# Altium integrated library 1541 Interface for ZX-81.IntLib: 24 symbols
Pins are listed as number, name and electrical type; pins without a type are passive.

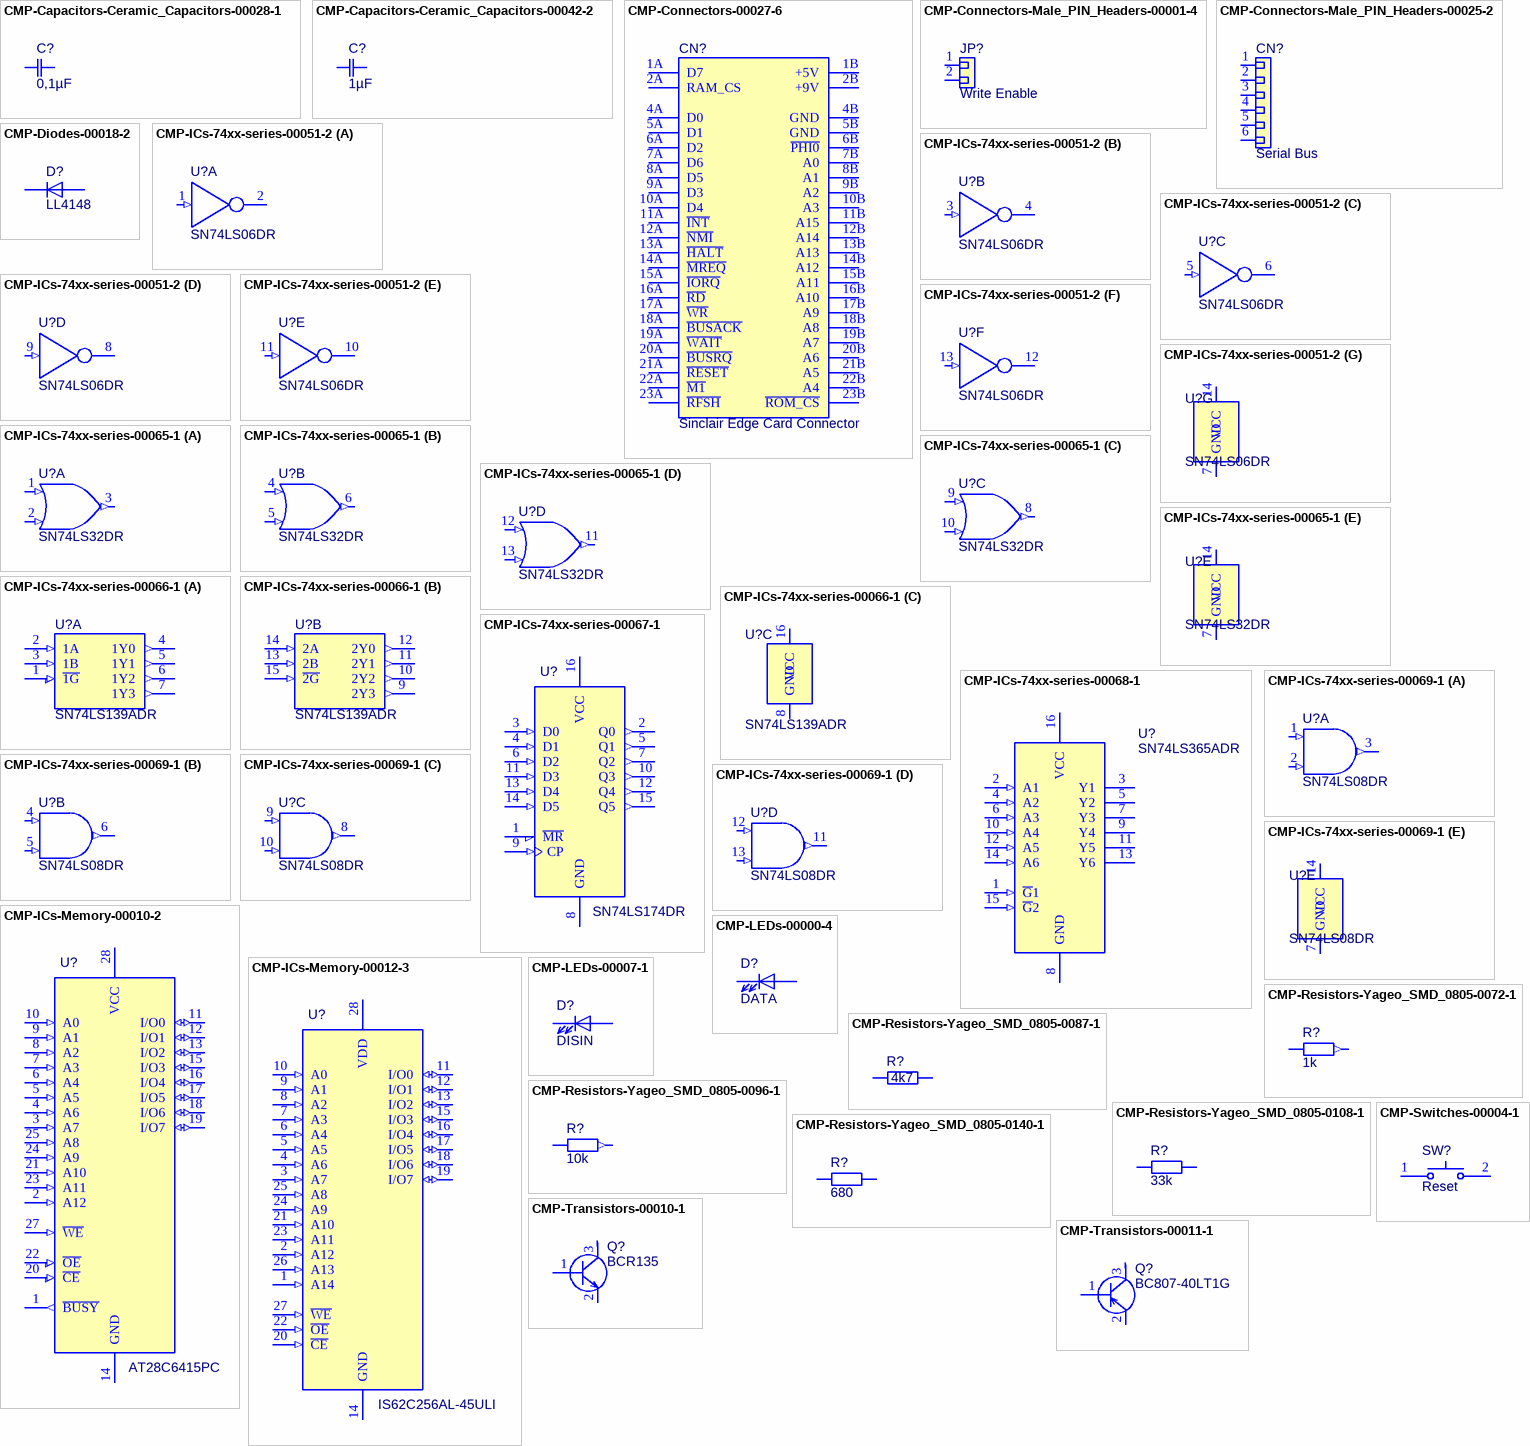
[diagram p0: symbols CMP-Capacitors-Ceramic_Capacitors-00028-1 to CMP-Transistors-00011-1]

## CMP-Capacitors-Ceramic_Capacitors-00028-1
designator C?, comment 0,1µF
Capacitor; Ceramic; Cap; .100uF; Tol 20%; SMT; Vol-Rtg 50V; X7R; Tape and Reel; Manufacturer: KEMET; Manufacturer Part Number: C0805C104M5RACTU; Capacitance: 100nF; Depth: 1.25mm; Packaging: Tape and Reel; Min Operating Temperature: -55°C; Max Operating Temperature: 125°C; Dielectric: X7R; Radiation Hardening: No; Mount: Surface Mount; Case/Package: 0805; Dielectric Material: Ceramic; Height: 0.9mm; Voltage Rating (DC): 50V; Length: 2mm; Tolerance: 20%; Component Type: Ceramic Capacitors
footprint CAP SMD 0.1µF 50V 0805 Kemet C0805C104M5RACTU (Chip Capacitor, 2-Leads, Body 2,00x1,25mm, IPC Medium Density)
pins: 1, 2

## CMP-Capacitors-Ceramic_Capacitors-00042-2
designator C?, comment 1µF
KEMET - C0805C105K4RACTU - SMD Multilayer Ceramic Capacitor, 1 µF, 16 V, 0805 [2012 Metric], ± 10%, X7R, C Series KEMET; Voltage: 16V; Capacitance: 1uF; Dissipation Factor: 5%; Number of Pins: 2; Dielectric: X7R; Width: 0.049inch; Voltage Rating (DC): 16V; Depth: 1.25mm; Dielectric Material: Ceramic; Mount: Surface Mount,PCB; Radiation Hardening: No; Max Operating Temperature: 125°C; Thickness: 0.039inch; Packaging: Tape and Reel; Contact Plating: Tin,Matte; Lead Pitch: 0.75mm; Height: 0.9mm; Termination: SMD/SMT; Case Code (Imperial): 0805; REACH SVHC: No SVHC; Case/Package: 0805; Case Code (Metric): 2012; Voltage Rating: 16V; Length: 2mm; Package Quantity: 1; Tolerance: 10%; Min Operating Temperature: -55°C; Manufacturer: KEMET; Manufacturer Part Number: C0805C105K4RACTU; Component Type: Ceramic Capacitors
footprint CAP 1µF 16V 0805 Kemet C0805C105K4RACTU (Chip Capacitor, 2-Leads, Body 2,00x1,25mm, IPC Medium Density)
pins: 1, 2

## CMP-Connectors-00027-6
designator CN?, comment Sinclair Edge Card Connector
Component Type: Connectors
footprint Sinclair Card Connector (C64 Expansion Port EDGE Connector Straight)
pins: 1A D7, 1B +5V (power), 2A RAM_CS, 2B +9V (power), 4A D0, 4B GND (power), 5A D1, 5B GND (power), 6A D2, 6B ~{PHI0}, 7A D6, 7B A0, 8A D5, 8B A1, 9A D3, 9B A2, 10A D4, 10B A3, 11A ~{INT}, 11B A15, 12A ~{NMI}, 12B A14, 13A ~{HALT}, 13B A13, 14A ~{MREQ}, 14B A12, 15A ~{IORQ}, 15B A11, 16A ~{RD}, 16B A10, 17A ~{WR}, 17B A9, 18A ~{BUSACK}, 18B A8, 19A ~{WAIT}, 19B A7, 20A ~{BUSRQ}, 20B A6, 21A ~{RESET}, 21B A5, 22A ~{M1}, 22B A4, 23A ~{RFSH}, 23B ~{ROM_CS}

## CMP-Connectors-Male_PIN_Headers-00001-4
designator JP?, comment Write Enable
CONN HEADER .100" SNGL STR 2POS; Manufacturer: Sullins; Manufacturer Part Number: PRPC002SFAN-RC; Pitch: 0.1inch; Connector Type: Male Pin; Number of Positions: 2; Package Quantity: 1; Packaging: Bulk; Mount: Through Hole; Contact Mating Length: 0.318inch; Termination: Solder; Contact Plating: Gold; Color: Black; Number of Rows: 1; Component Type: Male PIN Headers
footprint Pin Header 01x02 2.54mm Horizontal Male
pins: 1, 2

## CMP-Connectors-Male_PIN_Headers-00025-2
designator CN?, comment Serial Bus
CONN HEADER R/A 6POS 2.54MM; Manufacturer: Sullins; Manufacturer Part Number: PRPC006SBAN-M71RC; Pitch: 0.1inch; Connector Type: Male Pin; Number of Positions: 6; Color: Black; Termination: Solder; Contact Mating Length: 0.23inch; Contact Plating: Gold; Number of Rows: 1; Packaging: Bulk; Package Quantity: 1; Mount: Through Hole; Component Type: Male PIN Headers
footprint Pin Header 01x06 Right Angle RM2.54mm L5.08mm
pins: 1, 2, 3, 4, 5, 6

## CMP-Diodes-00018-2
designator D?, comment LL4148
ON SEMICONDUCTOR - LL4148 - Small Signal Diode, Single, 100 V, 200 mA, 1 V, 4 ns, 2 A; Manufacturer: ON Semiconductor / Fairchild; Power Dissipation: 500mW; Max Forward Surge Current (Ifsm): 2A; Forward Voltage: 1V; Forward Current: 200mA; Voltage: 100V; Max Reverse Current: 25nA; Recovery Time: 4ns; Element Configuration: Single; Min Operating Temperature: -65°C; Max Operating Temperature: 175°C; Width: 1.5mm; Radiation Hardening: No; REACH SVHC: No SVHC; Length: 3.6mm; Max Reverse Voltage (DC): 100V; Reverse Voltage: 100V; Mount: Surface Mount; Height: 1.5mm; Contact Plating: Tin,Matte; Packaging: Tape and Reel; Lead Free: Lead Free; Max Surge Current: 2A; Average Rectified Current: 200mA; Weight: 0.01lb; Number of Pins: 2; Peak Non-Repetitive Surge Current: 2A; Max Repetitive Reverse Voltage (Vrrm): 100V; Reverse Recovery Time: 4ns; Package Quantity: 2500; Manufacturer Part Number: LL4148; Component Type: Diodes
footprint MiniMELF Diode (MELF Diode, 2-Leads, Body 3,50x1,50mm, IPC Medium Density)
pins: 1, 2

## CMP-ICs-74xx-series-00051-2
designator U?, comment SN74LS06DR
IC INVERTER OPEN COL 6CH 14SOIC; Manufacturer: Texas Instruments; Propagation Delay: 20ns; High Level Output Current: -250uA; Logic Function: Buffer,Inverter; Polarity: Inverting; Max Supply Voltage: 5.25V; Number of Inputs: 6; Operating Supply Voltage: 5V; Min Supply Voltage: 4.75V; Low Level Output Current: 40mA; Lead Free: Lead Free; Radiation Hardening: No; Package Quantity: 1; Max Operating Temperature: 70°C; REACH SVHC: No SVHC; Turn-On Delay Time: 20ns; Mount: Surface Mount; Number of Pins: 14; Number of Elements: 6; Packaging: Tape and Reel; Number of Outputs: 6; Number of Bits: 6; Number of Input Lines: 6; Min Operating Temperature: 0°C; Number of Channels: 6; Case/Package: SOIC; Number of Gates: 6; Contact Plating: Gold; Number of Circuits: 6; Number of Output Lines: 6; Manufacturer Part Number: SN74LS06DR; Component Type: 74xx-series
footprint SN74LS06DR SOIC-14 P1.27mm W3.9mm (SOIC, 14-Leads, Body 8,65x3,90mm, Pitch 1,27mm, IPC Medium Density)
part A pins: 1 1A (in), 2 1Y (oc)
part B pins: 3 2A (in), 4 2Y (oc)
part C pins: 5 3A (in), 6 3Y (oc)
part D pins: 8 4Y (oc), 9 4A (in)
part E pins: 10 5Y (oc), 11 5A (in)
part F pins: 12 6Y (oc), 13 6A (in)
part G pins: 7 GND, 14 VCC (power)

## CMP-ICs-74xx-series-00065-1
designator U?, comment SN74LS32DR
IC GATE OR 4CH 2-INP 14SOIC; Manufacturer: Texas Instruments; Operating Supply Voltage: 5V; High Level Output Current: -16mA; Turn-On Delay Time: 22ns; Number of Elements: 4; Low Level Output Current: 800uA; Number of Output Lines: 1; Number of Inputs: 2; Quiescent Current: 4.9mA; Max Supply Voltage: 5.25V; Output Type: TTL; Logic Function: OR GATE; Output Current: 8mA; Min Supply Voltage: 4.75V; Packaging: Tape and Reel; Radiation Hardening: No; Max Operating Temperature: 70°C; Mount: Surface Mount; Case/Package: SOIC; Number of Bits: 4; REACH SVHC: No SVHC; Lead Free: Lead Free; Number of Pins: 14; Number of Gates: 4; Package Quantity: 2500; Number of Outputs: 1; Propagation Delay: 22ns; Weight: 0.004564oz; Number of Input Lines: 2; Min Operating Temperature: 0°C; Number of Circuits: 4; Manufacturer Part Number: SN74LS32DR; Component Type: 74xx-series
footprint SN74LS32DR2 SOIC-14 P1.27mm W3.9mm (SOIC, 14-Leads, Body 8,65x3,90mm, Pitch 1,27mm, IPC Medium Density)
part A pins: 1 1A (in), 2 1B (in), 3 1Y (out)
part B pins: 4 2A (in), 5 2B (in), 6 2Y (out)
part C pins: 8 3Y (out), 9 3A (in), 10 3B (in)
part D pins: 11 4Y (out), 12 4A (in), 13 4B (in)
part E pins: 7 GND, 14 VCC (power)

## CMP-ICs-74xx-series-00066-1
designator U?, comment SN74LS139ADR
Decoder/Demultiplexer Dual 2-to-4 16-Pin SOIC T/R; Manufacturer: Texas Instruments; Propagation Delay: 33ns; Turn-On Delay Time: 38ns; Low Level Output Current: 8mA; Number of Inputs: 2; Bandwidth: 35MHz; High Level Output Current: -400uA; Min Supply Voltage: 4.75V; Number of Output Lines: 4; Supply Type: Single; Logic Function: Demultiplexer,Decoder; Max Supply Voltage: 5.25V; Operating Supply Voltage: 5V; Polarity: Inverting; Max Operating Temperature: 70°C; Package Quantity: 2500; Radiation Hardening: No; Min Operating Temperature: 0°C; Packaging: Tape and Reel; Weight: 0.004998oz; Number of Channels: 2; Lead Free: Lead Free; Number of Elements: 2; Independent Circuits: 2; Mount: Surface Mount; Number of Outputs: 4; Number of Pins: 16; Number of Bits: 4; Case/Package: SOIC; Number of Input Lines: 2; Manufacturer Part Number: SN74LS139ADR; Component Type: 74xx-series
footprint SN74LS139ADR SOIC-15 P1.27mm W3.9mm (SOIC, 16-Leads, Body 9,90x3,90mm, Pitch 1,27mm, IPC Medium Density)
part A pins: 1 ~{1G} (in), 2 1A (in), 3 1B (in), 4 1Y0 (out), 5 1Y1 (out), 6 1Y2 (out), 7 1Y3 (out)
part B pins: 9 2Y3 (out), 10 2Y2 (out), 11 2Y1 (out), 12 2Y0 (out), 13 2B (in), 14 2A (in), 15 ~{2G} (in)
part C pins: 8 GND, 16 VCC (power)

## CMP-ICs-74xx-series-00067-1
designator U?, comment SN74LS174DR
Flip Flops Hex; Manufacturer: Texas Instruments; Number of Output Lines: 2; Output Type: TTL; Frequency: 40MHz; Min Supply Voltage: 4.75V; Number of Bits per Element: 6; Number of Elements: 1; Propagation Delay: 30ns; Polarity: Non-Inverting; High Level Output Current: -400uA; Output Current: 8mA; Operating Supply Voltage: 5V; Turn-On Delay Time: 35ns; Logic Function: D-Type,Flip-Flop; Clock Edge Trigger Type: Positive Edge; Max Supply Voltage: 5.25V; Number of Circuits: 7; Number of Pins: 16; Package Quantity: 2500; Weight: 0.004998oz; Radiation Hardening: No; Number of Bits: 6; Min Operating Temperature: 0°C; Mount: Surface Mount; Case/Package: SOIC; Max Operating Temperature: 70°C; Number of Input Lines: 2; Low Level Output Current: 8mA; Packaging: Tape and Reel; Lead Free: Lead Free; Manufacturer Part Number: SN74LS174DR; Component Type: 74xx-series
footprint SN74LS174DR SOIC-15 P1.27mm W3.9mm (SOIC, 16-Leads, Body 9,90x3,90mm, Pitch 1,27mm, IPC Medium Density)
pins: 1 ~{MR}, 2 Q0 (out), 3 D0 (in), 4 D1 (in), 5 Q1 (out), 6 D2 (in), 7 Q2 (out), 8 GND (power), 9 CP (in), 10 Q3 (out), 11 D3 (in), 12 Q4 (out), 13 D4 (in), 14 D5 (in), 15 Q5 (out), 16 VCC (power)

## CMP-ICs-74xx-series-00068-1
designator U?, comment SN74LS365ADR
IC BUFF/DVR TRI-ST 6BIT 16SOIC; Manufacturer: Texas Instruments; Propagation Delay: 22ns; High Level Output Current: -2.6mA; Max Supply Voltage: 5.25V; Number of Elements: 1; Number of Output Lines: 6; Logic Function: Buffer,Inverting; Min Supply Voltage: 4.75V; Operating Supply Voltage: 5V; Low Level Output Current: 24mA; Polarity: Non-Inverting; Radiation Hardening: No; Mount: Surface Mount; Case/Package: SOIC; Number of Outputs: 6; Packaging: Tape and Reel; Lead Free: Lead Free; Contact Plating: Gold; Max Operating Temperature: 70°C; Number of Bits: 6; Number of Bits per Element: 6; Min Operating Temperature: 0°C; Number of Input Lines: 6; Number of Pins: 16; Package Quantity: 2500; Manufacturer Part Number: SN74LS365ADR; Component Type: 74xx-series
footprint SN74LS365ADR SOIC-15 P1.27mm W3.9mm (SOIC, 16-Leads, Body 9,90x3,90mm, Pitch 1,27mm, IPC Medium Density)
pins: 1 ~{G}1 (in), 2 A1 (in), 3 Y1 (oc), 4 A2 (in), 5 Y2 (oc), 6 A3 (in), 7 Y3 (oc), 8 GND (power), 9 Y4 (oc), 10 A4 (in), 11 Y5 (oc), 12 A5 (in), 13 Y6 (oc), 14 A6 (in), 15 ~{G}2 (in), 16 VCC (power)

## CMP-ICs-74xx-series-00069-1
designator U?, comment SN74LS08DR
TEXAS INSTRUMENTS         SN74LS08DR             AND Gate, 8 Input, 4 Gate, 8 mA, 4.75V to 5.25V, SOIC-14; Number of Outputs: 1; Operating Supply Voltage: 5V; Number of Gates: 4; Quiescent Current: 4.4mA; High Level Output Current: -800uA; Turn-On Delay Time: 25ns; Number of Input Lines: 2; Output Current: 8mA; Low Level Output Current: 16mA; Propagation Delay: 20ns; Mount: Surface Mount; Contact Plating: Gold; Number of Output Lines: 1; Packaging: Tape and Reel; Case/Package: SOIC; Number of Elements: 4; Max Operating Temperature: 70°C; Max Supply Voltage: 5.25V; Number of Inputs: 2; Min Operating Temperature: 0°C; REACH SVHC: No SVHC; Min Supply Voltage: 4.75V; Number of Bits: 4; Radiation Hardening: No; Number of Circuits: 4; Package Quantity: 2500; Lead Free: Lead Free; Number of Pins: 14; Logic Function: AND GATE; Weight: 0.004564oz; Manufacturer: Texas Instruments; Manufacturer Part Number: SN74LS08DR; Component Type: 74xx-series
footprint SN74LS08DR SOIC-14 P1.27mm W3.9mm (SOIC, 14-Leads, Body 8,65x3,90mm, Pitch 1,27mm, IPC Medium Density)
part A pins: 1 1A (in), 2 1B (in), 3 1Y (out)
part B pins: 4 2A (in), 5 2B (in), 6 2Y (out)
part C pins: 8 3Y (out), 9 3A (in), 10 3B (in)
part D pins: 11 4Y (out), 12 4A (in), 13 4B (in)
part E pins: 7 GND, 14 VCC (power)

## CMP-ICs-Memory-00010-2
designator U?, comment AT28C6415PC
IC EEPROM 64KBIT 150NS 28DIP; Manufacturer: Microchip / Atmel; Manufacturer Part Number: AT28C64B-15PC; Memory Size: 64Kb; Frequency: 150GHz; Min Supply Voltage: 4.5V; Max Supply Voltage: 5.5V; Nominal Supply Current: 30mA; Interface: Parallel; Number of Pins: 28; Lead Free: Contains Lead; Min Operating Temperature: 0°C; Access Time: 150ns; Memory Type: EEPROM; Case/Package: PDIP; Density: 64Kb; Max Operating Temperature: 70°C; Packaging: Rail/Tube; Mount: Through Hole; Package Quantity: 14; Component Type: Memorys
footprint 28C64-150
footprint 28C64-150 with Socket
pins: 1 ~{BUSY} (out), 2 A12 (in), 3 A7 (in), 4 A6 (in), 5 A5 (in), 6 A4 (in), 7 A3 (in), 8 A2 (in), 9 A1 (in), 10 A0 (in), 11 I/O0 (io), 12 I/O1 (io), 13 I/O2 (io), 14 GND (power), 15 I/O3 (io), 16 I/O4 (io), 17 I/O5 (io), 18 I/O6 (io), 19 I/O7 (io), 20 ~{CE} (in), 21 A10 (in), 22 ~{OE} (in), 23 A11 (in), 24 A9 (in), 25 A8 (in), 26 N/C hidden, 27 ~{WE} (in), 28 VCC (power)

## CMP-ICs-Memory-00012-3
designator U?, comment IS62C256AL-45ULI
SRAM Chip Async Single 5V 256K-Bit 32K x 8 45ns 28-Pin SOP; Manufacturer: ISSI; Max Supply Voltage: 5.5V; Density: 256Kb; Number of Ports: 1; Memory Type: RAM,SRAM - Asynchronous; Address Bus Width: 15b; Min Supply Voltage: 4.5V; Sync/Async: Asynchronous; Word Size: 8b; Nominal Supply Current: 25mA; Max Frequency: 22MHz; Interface: Parallel; Number of Words: 32000; Case/Package: SOP; Packaging: Rail/Tube; Length: 18.24mm; Package Quantity: 120; Max Operating Temperature: 85°C; Radiation Hardening: No; Height: 2.84mm; Operating Supply Voltage: 5V; Voltage: 5V; Access Time: 45ns; Lead Free: Lead Free; Number of Pins: 28; Min Operating Temperature: -40°C; REACH SVHC: No SVHC; Width: 8.53mm; Memory Size: 256Kb; Manufacturer Part Number: IS62C256AL-45ULI; Component Type: Memorys
footprint IS62C256AL-45ULI 28L 330mil SOP (SOP, 28-Leads, Body 18,16x8,57mm, Pitch 1,27mm, IPC Medium Density)
pins: 1 A14 (in), 2 A12 (in), 3 A7 (in), 4 A6 (in), 5 A5 (in), 6 A4 (in), 7 A3 (in), 8 A2 (in), 9 A1 (in), 10 A0 (in), 11 I/O0 (io), 12 I/O1 (io), 13 I/O2 (io), 14 GND (power), 15 I/O3 (io), 16 I/O4 (io), 17 I/O5 (io), 18 I/O6 (io), 19 I/O7 (io), 20 ~{CE} (in), 21 A10 (in), 22 ~{OE} (in), 23 A11 (in), 24 A9 (in), 25 A8 (in), 26 A13 (in), 27 ~{WE} (in), 28 VDD (power)

## CMP-LEDs-00000-4
designator D?, comment DATA
WURTH ELEKTRONIK   151033RS03000   LED, 3MM,  RED, 2600MCD, 621NM; Manufacturer: Wurth Electronics; Test Current: 20mA; Lens Style: Clear,Circular,Round; Forward Voltage: 2V; Viewing Angle: 30°; Forward Current: 30mA; Packaging: Bulk; Color: Red; Package Quantity: 1; Mount: Through Hole; Luminous Intensity: 2600mcd; Wavelength: 621nm; Lens Size: 3mm; Dominant Wavelength: 621nm; Case/Package: Radial; Min Operating Temperature: -40°C; REACH SVHC: Unknown; Max Operating Temperature: 85°C; Height: 5.55mm; Manufacturer Part Number: 151033RS03000; Component Type: LEDs
footprint LED 3mm Red Straight
footprint LED 3mm Red Right Angle 2mm
footprint LED 3mm Red Right Angle 4mm
footprint LED 3mm Red Right Angle 6mm
pins: 1, 2

## CMP-LEDs-00007-1
designator D?, comment DISIN
WURTH ELEKTRONIK - 151033GS03000 - LED, Green, T-1 (3mm), 530 nm, 3.2 V, 30 mA, 15 cd RoHS Compliant: Yes; Manufacturer: Wurth Electronics; Forward Voltage: 3.2V; Luminous Intensity: 15000mcd; Lens Style: Clear,Round,Circular; Wavelength: 530nm; Viewing Angle: 30°; Forward Current: 30mA; Test Current: 20mA; Mount: Through Hole; Package Quantity: 1; Case/Package: Radial; Max Operating Temperature: 85°C; Color: Green; REACH SVHC: Unknown; Height: 5.55mm; Lens Size: 3mm; Min Operating Temperature: -40°C; Packaging: Bulk; Dominant Wavelength: 530nm; Manufacturer Part Number: 151033GS03000; Component Type: LEDs
footprint LED 3mm Green Straight
footprint LED 3mm Green Right Angle 2mm
footprint LED 3mm Green Right Angle 4mm
footprint LED 3mm Green Right Angle 6mm
pins: 1, 2

## CMP-Resistors-Yageo_SMD_0805-0072-1
designator R?, comment 1k
RES SMD 1K OHM 1% 1/8W 0805; Manufacturer: Yageo; Manufacturer Part Number: RC0805FR-071KL; Voltage Rating: 150V; Temperature Coefficient: 100ppm/°C; Resistance: 1kR; Max Power Dissipation: 125mW; Height: 0.024inch; Number of Pins: 2; Width: 0.049inch; Min Operating Temperature: -55°C; Termination: SMD/SMT; REACH SVHC: Unknown; Lead Free: Lead Free; Package Quantity: 1; Number of Terminations: 2; Features: Moisture Resistant; Packaging: Tape and Reel; Case Code (Imperial): 0805; Voltage Rating (DC): 150V; Military Standard: Not; Case Code (Metric): 2012; Case/Package: 0805; Tolerance: 1%; Length: 0.079inch; Power Rating: 125mW; Composition: Thick Film; Depth: 1.25mm; Max Operating Temperature: 155°C; Component Type: Yageo SMD 0805
footprint 1,0 kOhm R 0805 SMD (Chip Resistor, 2-Leads, Body 2,00x1,25mm, IPC Medium Density)
pins: 1, 2 (out)

## CMP-Resistors-Yageo_SMD_0805-0087-1
designator R?, comment 4k7
YAGEO (PHYCOMP)         RC0805FR-074K7L             SMD Chip Resistor, Thick Film, 4.7 kohm, 150 V, 0805 [2012 Metric], 250 mW,  1%; Resistance: 4.7kR; Max Power Dissipation: 125mW; Voltage Rating (DC): 150V; Temperature Coefficient: 100ppm/°C; Width: 0.049inch; Case Code (Imperial): 0805; Packaging: Tape and Reel; Termination: SMD/SMT; Min Operating Temperature: -55°C; Depth: 1.25mm; Length: 0.079inch; Case/Package: 0805; Military Standard: Not; REACH SVHC: No SVHC; Composition: Thick Film; Package Quantity: 5000; Case Code (Metric): 2012; Max Operating Temperature: 155°C; Lead Free: Lead Free; Height: 0.024inch; Number of Terminations: 2; Voltage Rating: 150V; Power Rating: 125mW; Features: Moisture Resistant; Tolerance: 1%; Number of Pins: 2; Manufacturer: Yageo; Manufacturer Part Number: RC0805FR-074K7L; Component Type: Yageo SMD 0805
footprint 4,7 kOhm R 0805 SMD (Chip Resistor, 2-Leads, Body 2,00x1,25mm, IPC Medium Density)
pins: 1, 2

## CMP-Resistors-Yageo_SMD_0805-0096-1
designator R?, comment 10k
RES SMD 10K OHM 1% 1/8W 0805; Manufacturer: Yageo; Manufacturer Part Number: RC0805FR-0710KL; Temperature Coefficient: 100ppm/°C; Max Power Dissipation: 125mW; Resistance: 10kR; Voltage Rating: 150V; Termination: SMD/SMT; Composition: Thick Film; Tolerance: 1%; Case Code (Imperial): 0805; REACH SVHC: Unknown; Case/Package: 0805; Length: 2mm; Max Operating Temperature: 155°C; Number of Terminations: 2; Case Code (Metric): 2012; Depth: 1.25mm; Height: 0.024inch; Min Operating Temperature: -55°C; Package Quantity: 1; Features: Moisture Resistant; Packaging: Tape and Reel; Power Rating: 125mW; Lead Free: Lead Free; Width: 0.049inch; Military Standard: Not; Component Type: Yageo SMD 0805
footprint 10 kOhm R 0805 SMD (Chip Resistor, 2-Leads, Body 2,00x1,25mm, IPC Medium Density)
pins: 1, 2 (out)

## CMP-Resistors-Yageo_SMD_0805-0108-1
designator R?, comment 33k
RES SMD 33K OHM 1% 1/8W 0805; Manufacturer: Yageo; Manufacturer Part Number: RC0805FR-0733KL; Voltage Rating: 150V; Temperature Coefficient: 100ppm/°C; Power Rating: 125mW; Resistance: 33kR; Number of Terminations: 2; Height: 0.024inch; Case/Package: 0805; Package Quantity: 1; Depth: 1.25mm; Case Code (Metric): 2012; Min Operating Temperature: -55°C; Lead Free: Lead Free; Termination: SMD/SMT; Case Code (Imperial): 0805; Composition: Thick Film; Tolerance: 1%; Max Operating Temperature: 155°C; Features: Moisture Resistant; Packaging: Tape and Reel; Width: 0.049inch; Length: 0.079inch; REACH SVHC: Unknown; Working Voltage: 150V; Max Power Dissipation: 125mW; Component Type: Yageo SMD 0805
footprint 33 kOhm R 0805 SMD (Chip Resistor, 2-Leads, Body 2,00x1,25mm, IPC Medium Density)
pins: 1, 2

## CMP-Resistors-Yageo_SMD_0805-0140-1
designator R?, comment 680
RES SMD 680K OHM 1% 1/8W 0805; Manufacturer: Yageo; Manufacturer Part Number: RC0805FR-07680KL; Power Rating: 125mW; Temperature Coefficient: 100ppm/°C; Resistance: 680kR; Voltage Rating: 150V; Case Code (Metric): 2012; Case Code (Imperial): 0805; REACH SVHC: Unknown; Packaging: Tape and Reel; Contact Plating: Tin,Matte; Number of Terminations: 2; Composition: Thick Film; Radiation Hardening: No; Military Standard: Not; Length: 0.079inch; Package Quantity: 1; Termination: SMD/SMT; Min Operating Temperature: -55°C; Max Power Dissipation: 125mW; Width: 0.049inch; Features: Moisture Resistant; Tolerance: 1%; Depth: 1.25mm; Max Operating Temperature: 155°C; Lead Free: Lead Free; Height: 0.024inch; Case/Package: 0805; Component Type: Yageo SMD 0805
footprint 680 kOhm R 0805 SMD (Chip Resistor, 2-Leads, Body 2,00x1,25mm, IPC Medium Density)
pins: 1, 2

## CMP-Switches-00004-1
designator SW?, comment Reset
SWITCH TACTILE SPST-NO 0.05A 24V; Manufacturer: TE Connectivity; Manufacturer Part Number: 1-1825027-1; Contact Current Rating: 50mA; Mechanical Life: 100000Cycles; Illumination Color: Black; Switch Function: Off-Mom; Operating Force: 160gf; Actuator Material: PBT; Actuator Type: Standard; Throw Configuration: SPST; Actuator Length: 0.226inch; Switch Travel: 0.25mm; Illumination Type: Non-Illuminated; Contact Resistance: 100mR; Min Operating Temperature: -35°C; Type: Switch; Height: 7.3mm; Orientation: Straight; Lead Free: Lead Free; Packaging: Loose Piece; Max Voltage Rating (DC): 24V; Contact Material: Copper Alloy; Contact Plating: Silver; Depth: 12.36mm; Package Quantity: 1000; Max Current Rating: 50mA; Width: 6mm; Radiation Hardening: No; Termination: PC Pins; Max Operating Temperature: 85°C; Length: 7.11mm; Electrical Life: 100000Cycles; Mount: Through Hole; ELV: Compliant; Component Type: Switches
footprint Tactile Switch Push Button Right Angle L=8.35mm (Tactile Switch SPST-NO Side Actuated Through Hole, Right Angle 1-1825027-1)
pins: 1, 2, 3 hidden, 4 hidden

## CMP-Transistors-00010-1
designator Q?, comment BCR135
BCR135 Series NPN 50 V 100 mA SMT Silicon Digital Transistor - SOT-23-3; Manufacturer: Infineon; Max Collector Current: 100mA; Collector Emitter Saturation Voltage: 300mV; Element Configuration: Single; hFE Min: 70; Power Dissipation: 200mW; Collector Emitter Voltage (VCEO): 50V; Polarity: NPN; Length: 2.9mm; Min Operating Temperature: -65°C; Number of Pins: 3; Width: 1.3mm; Max Operating Temperature: 150°C; Case/Package: SOT; Packaging: Tape and Reel; Height: 1mm; Manufacturer Part Number: BCR135; Component Type: Transistors
footprint BCR135 SOT23
pins: 1, 2, 3

## CMP-Transistors-00011-1
designator Q?, comment BC807-40LT1G
Silicon Transistor Plastic,  BC807-40LT1G; Manufacturer: ON Semiconductor; Max Collector Current: 500mA; Power Dissipation: 300mW; Collector Emitter Breakdown Voltage: 45V; Frequency: 100MHz; Emitter Base Voltage (VEBO): 5V; Collector Emitter Saturation Voltage: -700mV; Number of Elements: 1; Collector Base Voltage (VCBO): 50V; Element Configuration: Single; hFE Min: 250; Polarity: PNP; Packaging: Tape and Reel; Case/Package: SOT-23-3; REACH SVHC: No SVHC; Width: 1.3mm; Lead Free: Lead Free; Max Operating Temperature: 150°C; Transition Frequency: 100MHz; Collector Emitter Voltage (VCEO): 45V; Max Frequency: 100MHz; Contact Plating: Tin,Matte; Height: 0.94mm; Min Operating Temperature: -55°C; Number of Pins: 3; Halogen Free: Halogen Free; Radiation Hardening: No; Gain Bandwidth Product: 100MHz; Max Breakdown Voltage: 45V; Max Power Dissipation: 300mW; Package Quantity: 1; Length: 2.9mm; Manufacturer Part Number: BC807-40LT1G; Component Type: Transistors
footprint Nexperia BC807-40 SOT23
pins: 1, 2, 3